# Altium footprint library 6_to_14_Pin.PcbLib: 74 footprints (part 5 of 5)
Each footprint in its own frame and in the unit in brackets; x right, y up, seen from the top. Pads: shape width x height; smd on the part's side, far side on the other; paste and mask are expansions set on the pad; w line width, h text height; cw(c..) or ccw(c..) is an arc to the next point about the centre after c.
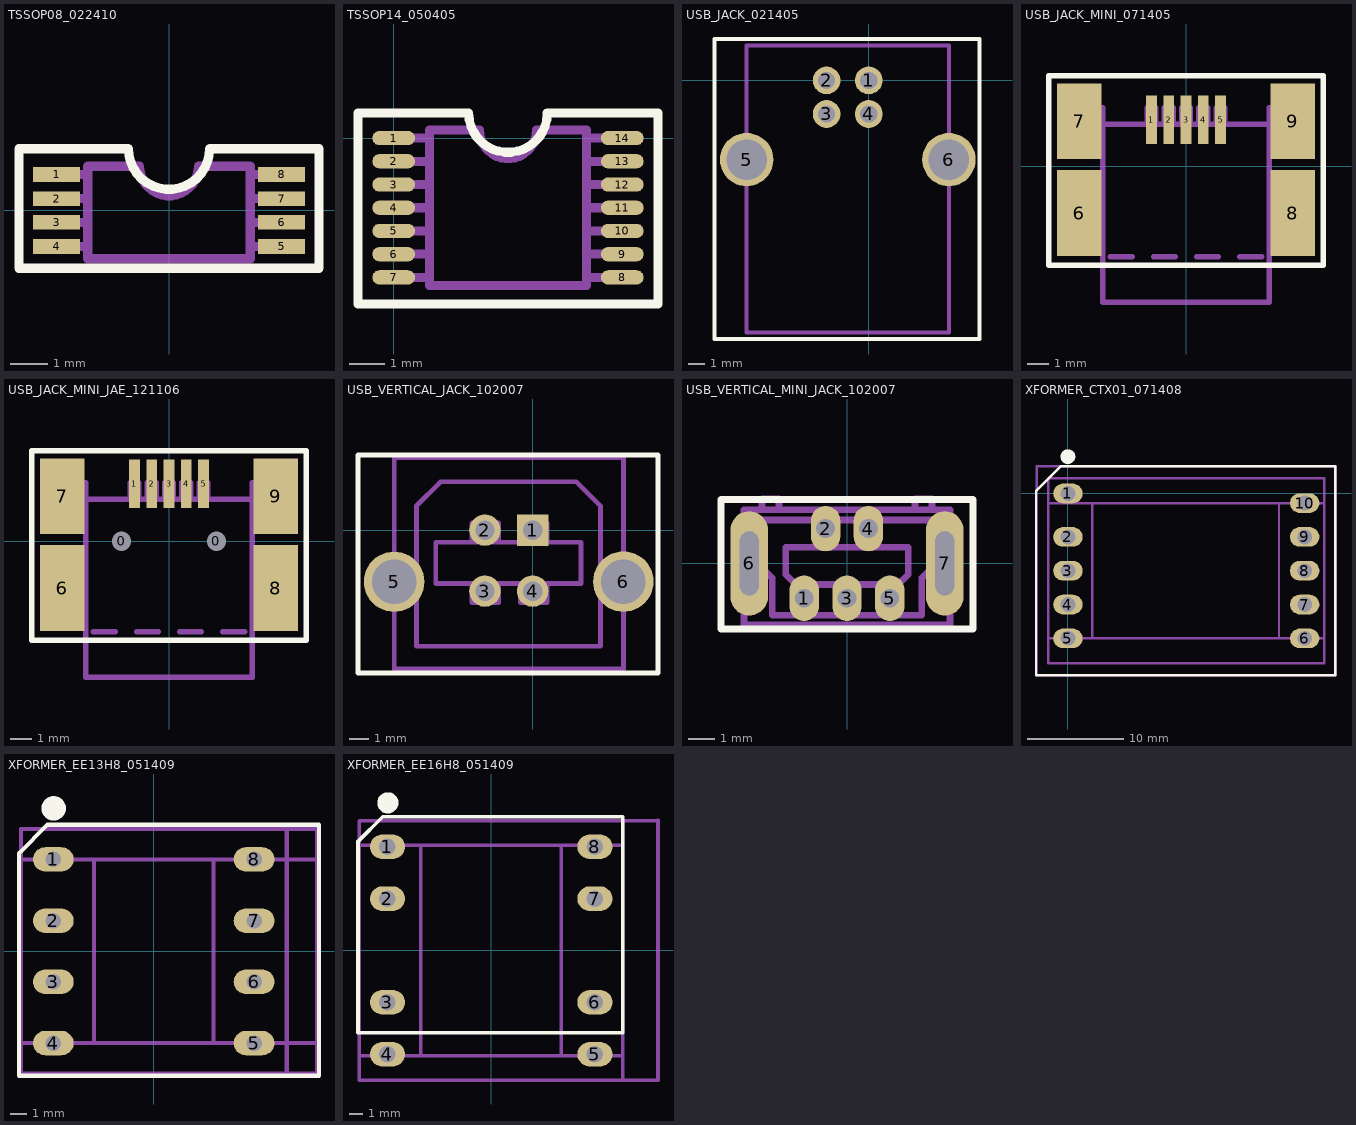
[diagram p4: the footprints below, top view; thin cyan lines are the x and y axes]

## TSSOP08_022410 [mil] "SMT"
height 50
pads (8):
  rect 50x15.5 smd mask+2: 1(-120,38.4) 2(-120,12.5) 3(-120,-12.5) 4(-120,-38.4) 5(120,-38.4) 6(120,-12.5) 7(120,12.5) 8(120,38.4)
Top Overlay:
  lines w10: -160,-61.61 -160,65.94 -43.31,65.94 ccw(c0,65.94) 43.31,65.94 160,65.94 160,-61.61 -160,-61.61
Assembly Outline:
  lines w10: -125.98,-38.39 -86.61,-38.39 ; -125.98,-12.79 -86.61,-12.79 ; -125.98,12.79 -86.61,12.79 ; -125.98,38.39 -86.61,38.39 ; -86.59,-51.61 86.61,-51.61 86.61,47.24 31.5,47.24 cw(c0,47.24) -31.5,47.24 -86.61,47.24 -86.61,-51.18 ; 86.61,-38.39 125.98,-38.39 ; 86.61,-12.79 125.98,-12.79 ; 86.61,12.79 125.98,12.79 ; 86.61,38.39 125.98,38.39
Assembly Designator:
  text ".Designator" at -65,20 h30
Assembly Comment:
  text ".Comment" at 55,-20 h10

## TSSOP14_050405 [mm] "SMT"
height 1.27
pads (14):
  oval 1.2x0.4 smd mask+0.038: 1(0,0) 2(0,-0.65) 3(0,-1.3) 4(0,-1.95) 5(0,-2.6) 6(0,-3.25) 7(0,-3.9) 8(6.4,-3.9) 9(6.4,-3.25) 10(6.4,-2.6) 11(6.4,-1.95) 12(6.4,-1.3) 13(6.4,-0.65) 14(6.4,0)
Top Overlay:
  lines w0.254: -1,-4.65 -1,0.7 2.1,0.7 ccw(c3.2,0.7) 4.3,0.7 7.4,0.7 7.4,-4.65 -1,-4.65
Assembly Outline:
  lines w0.254: 0,-3.9 1,-3.9 ; 0,-3.25 1,-3.25 ; 0,-2.6 1,-2.6 ; 0,-1.95 1,-1.95 ; 0,-1.3 1,-1.3 ; 0,-0.65 1,-0.65 ; 0,0 1,0 ; 3.2,-4.125 5.4,-4.125 ; 4.8,-4.125 1,-4.125 ; 5.4,-3.9 6.4,-3.9 ; 5.4,-3.25 6.4,-3.25 ; 5.4,-2.6 6.4,-2.6 ; 5.4,-1.95 6.4,-1.95 ; 5.4,-1.3 6.4,-1.3 ; 5.4,-0.65 6.4,-0.65 ; 5.4,0 6.4,0 ; 1,-4.125 1,-2.275 1,0.225 2.4,0.225 ccw(c3.2,0.225) 4,0.225 5.4,0.225 5.4,-4.125 ; 1,-4.125 5.4,-4.125
Assembly Designator:
  text ".Designator" at 1.956,-2.591 h1.02
Assembly Comment:
  text ".Comment" at -0.584,-5.969 h1.02

## USB_JACK_021405 [mil] "TH"
height 450
pads (6):
  round 65 hole 40: 1(0,0) 2(-98.43,0) 3(-98.43,-78.74) 4(0,-78.74)
  round 125 hole 95: 5(-285.83,-185.43) 6(187.79,-185.43)
Top Overlay:
  lines w10: -360.84,-605.43 -300.84,-605.43 44.16,-605.43 259.16,-605.43 259.16,44.57 259.16,96.77 -360.84,96.77 -360.84,44.57 -360.84,-605.43
Assembly Outline:
  lines w10: -285.84,-590.43 188.16,-590.43 188.16,27.57 188.16,81.77 -285.84,81.77 -285.84,27.57 -285.84,-590.43
Assembly Designator:
  text ".Designator" at -127,-229 h40
Assembly Comment:
  text ".Comment" at 80,18 h40

## USB_JACK_MINI_071405 [mm] "SM"
height 3.95
pads (9):
  rect 0.5x2.25 smd mask+0.051: 1(-1.6,2.163) 2(-0.8,2.163) 3(0,2.163) 4(0.8,2.163) 5(1.6,2.163)
  rect 2.05x4 smd mask+0.051: 6(-4.95,-2.163) 8(4.95,-2.163)
  rect 2.05x3.5 smd mask+0.051: 7(-4.95,2.087) 9(4.95,2.087)
Top Overlay:
  lines w0.254: -6.35,-4.572 0,-4.572 6.35,-4.572 6.35,0 6.35,4.191 0,4.191 -6.35,4.191 -6.35,0 -6.35,-4.572
Assembly Outline:
  lines w0.254: -4.95,-2.287 -4.95,-3.287 ; -4.45,-1.287 -4.95,-1.287 ; -3.85,-3.287 -4.95,-3.287 ; -3.85,-1.287 -4.95,-1.287 ; -3.85,1.213 -4.95,1.213 -4.95,2.713 -3.85,2.713 ; -3.5,-4.187 -2.5,-4.187 ; -1.6,1.963 -1.8,1.963 -1.8,2.713 -1.6,2.713 -1.4,2.713 -1.4,1.963 ; -1.5,-4.187 -0.5,-4.187 ; -0.8,1.963 -1,1.963 -1,2.713 -0.8,2.713 -0.6,2.713 -0.6,1.963 ; 0,-6.287 -3.85,-6.287 ; 0,1.963 -0.2,1.963 -0.2,2.713 0,2.713 0.2,2.713 0.2,1.963 ; 0.5,-4.187 1.5,-4.187 ; 0.8,1.963 0.6,1.963 0.6,2.713 0.8,2.713 1,2.713 1,1.963 ; 1.6,1.963 1.4,1.963 1.4,2.713 1.6,2.713 1.8,2.713 1.8,1.963 ; 2.5,-4.187 3.5,-4.187 ; 3.85,-4.287 3.85,-6.287 ; 3.85,-1.287 4.95,-1.287 ; 3.85,1.213 4.95,1.213 ; 4.45,-1.287 4.95,-1.287 ; 4.95,-2.287 4.95,-3.287 ; 4.95,1.963 4.95,1.213 ; -4.95,-3.287 -4.95,-1.287 ; -3.85,-6.287 3.85,-6.287 ; -3.85,-6.287 -3.85,2.713 ; -3.85,2.713 -3.85,1.963 1.975,1.963 3.85,1.963 3.85,2.713 ; 3.85,-6.287 3.85,2.713 ; 3.85,-6.287 3.85,-3.287 4.95,-3.287 ; 3.85,2.713 4.95,2.713 4.95,1.213 ; 4.95,-3.287 4.95,-1.287
  text "EDGE" at -1.75,-3.812 h1.02
Assembly Designator:
  text ".Designator" at -1,-1.7 h1.02
Assembly Comment:
  text ".Comment" at -3.575,3.65 h1.02

## USB_JACK_MINI_JAE_121106 [mm] "SM"
height 3.95
pads (11):
  round 0.8 hole 0.9: 0(-2.2,0) 0(2.2,0)
  rect 0.5x2.25 smd mask+0.051: 1(-1.6,2.671) 2(-0.8,2.671) 3(0,2.671) 4(0.8,2.671) 5(1.6,2.671)
  rect 2.05x4 smd mask+0.051: 6(-4.95,-2.163) 8(4.95,-2.163)
  rect 2.05x3.5 smd mask+0.051: 7(-4.95,2.087) 9(4.95,2.087)
Top Overlay:
  lines w0.254: -6.35,-4.572 0,-4.572 6.35,-4.572 6.35,0 6.35,4.191 0,4.191 -6.35,4.191 -6.35,0 -6.35,-4.572
Assembly Outline:
  lines w0.254: -4.95,-2.287 -4.95,-3.287 ; -4.45,-1.287 -4.95,-1.287 ; -3.85,-3.287 -4.95,-3.287 ; -3.85,-1.287 -4.95,-1.287 ; -3.85,1.213 -4.95,1.213 -4.95,2.713 -3.85,2.713 ; -3.5,-4.187 -2.5,-4.187 ; -1.6,1.963 -1.8,1.963 -1.8,2.713 -1.6,2.713 -1.4,2.713 -1.4,1.963 ; -1.5,-4.187 -0.5,-4.187 ; -0.8,1.963 -1,1.963 -1,2.713 -0.8,2.713 -0.6,2.713 -0.6,1.963 ; 0,-6.287 -3.85,-6.287 ; 0,1.963 -0.2,1.963 -0.2,2.713 0,2.713 0.2,2.713 0.2,1.963 ; 0.5,-4.187 1.5,-4.187 ; 0.8,1.963 0.6,1.963 0.6,2.713 0.8,2.713 1,2.713 1,1.963 ; 1.6,1.963 1.4,1.963 1.4,2.713 1.6,2.713 1.8,2.713 1.8,1.963 ; 2.5,-4.187 3.5,-4.187 ; 3.85,-4.287 3.85,-6.287 ; 3.85,-1.287 4.95,-1.287 ; 3.85,1.213 4.95,1.213 ; 4.45,-1.287 4.95,-1.287 ; 4.95,-2.287 4.95,-3.287 ; 4.95,1.963 4.95,1.213 ; -4.95,-3.287 -4.95,-1.287 ; -3.85,-6.287 3.85,-6.287 ; -3.85,-6.287 -3.85,2.713 ; -3.85,2.713 -3.85,1.963 1.975,1.963 3.85,1.963 3.85,2.713 ; 3.85,-6.287 3.85,2.713 ; 3.85,-6.287 3.85,-3.287 4.95,-3.287 ; 3.85,2.713 4.95,2.713 4.95,1.213 ; 4.95,-3.287 4.95,-1.287
  text "EDGE" at -1.75,-3.812 h1.02
Assembly Designator:
  text ".Designator" at -1,-1.7 h1.02
Assembly Comment:
  text ".Comment" at -3.575,3.65 h1.02

## USB_VERTICAL_JACK_102007 [mil] "TH"
height 615
pads (6):
  rect 65x65 hole 40: 1(0,0)
  round 65 hole 40: 2(-98.43,0) 3(-98.43,-125.98) 4(0,-125.98)
  round 125 hole 92: 5(-286.22,-106.69) 6(187.8,-106.3)
Top Overlay:
  lines w10: -360.84,-295 -360.84,155 259.16,155 259.16,-295 -360.84,-295
Assembly Outline:
  lines w10: -125,-110 -125,-150 -70,-150 -70,-110 ; -125,-25 -125,15 -70,15 -70,-25 ; -25,-110 -25,-150 30,-150 30,-110 ; -25,-25 -25,15 30,15 30,-25 ; -285.84,-287.01 -285.84,150 188.16,150 188.16,-287.01 -285.84,-287.01 ; -240,-240 -240,50 -190,100 90,100 140,50 140,-240 -240,-240 ; -200,-110 100,-110 100,-25 -200,-25 -200,-110
Assembly Designator:
  text ".Designator" at -155,-85 h40
Assembly Comment:
  text ".Comment" at -270,-340 h40

## USB_VERTICAL_MINI_JACK_102007 [mm] "TH"
height 7.747
pads (7):
  oval 1.1x1.7 hole 0.7: 1(-1.6,-1.3) 2(-0.8,1.3) 3(0,-1.3) 4(0.8,1.3) 5(1.6,-1.3)
  oval 1.4x3.9 hole 0.7 slot 2.4 at 90 deg: 6(-3.65,0) 7(3.65,0)
Top Overlay:
  lines w0.254: -4.699,-2.443 4.699,-2.443 4.699,2.383 -4.699,2.383 -4.699,-2.443
Assembly Outline:
  lines w0.254: -3.175,2.002 -3.175,2.4 -2.54,2.4 -2.54,2.002 ; 2.54,2.129 2.54,2.4 3.175,2.4 3.175,2.002 ; -3.85,-2.3 -3.85,2.002 3.85,2.002 3.85,-2.3 -3.85,-2.3 ; -3.429,0.097 -2.794,-0.538 -2.794,-1.935 2.794,-1.935 2.794,-0.538 3.429,0.097 3.429,1.621 -3.429,1.621 -3.429,0.097 ; -2.286,-0.411 -1.905,-0.792 1.905,-0.792 2.286,-0.411 2.286,0.605 -2.286,0.605 -2.286,-0.411
Assembly Designator:
  text ".Designator" at -1.143,2.383 h1.02
Assembly Comment:
  text ".Comment" at -4.572,-3.713 h1.02

## XFORMER_CTX01_071408 [mil] "TH"
height 60
pads (10):
  oval 120x80 hole 60: 1(0,0) 2(0,-177.17) 3(0,-314.96) 4(0,-452.76) 5(0,-590.55) 6(964.57,-590.55) 7(964.57,-452.76) 8(964.57,-314.96) 9(964.57,-177.17) 10(964.57,-39.37)
Top Overlay:
  circle w30: c0,150 r15
  lines w10: -130,-740 1090,-740 1090,110 -30,110 -130,10 -130,-740
Assembly Outline:
  lines w10: -80,-590 100,-590 ; -80,-40 100,-40 ; -80,60 -80,-692.2 1044.57,-692.2 1044.57,62.28 -77.72,62.28 ; 1044.57,-590 860,-590 ; 1044.57,-40 860,-40 ; 100,-590 860,-590 ; 100,-590 100,-40 ; 100,-40 860,-40 ; 860,-590 860,-40 ; -127.72,-739.92 -127.72,110 1092.28,110 1092.28,-739.92 -127.72,-739.92
Assembly Designator:
  text ".Designator" at 400,-330 h40
Assembly Comment:
  text ".Comment" at 150,-520 h40

## XFORMER_EE13H8_051409 [mil] "TH"
height 60
pads (8):
  oval 100x60 hole 38: 1(-246.06,225) 2(-246.06,75) 3(-246.06,-75) 4(-246.06,-225) 5(246.06,-225) 6(246.06,-75) 7(246.06,75) 8(246.06,225)
Top Overlay:
  circle w30: c-245,350 r15
  lines w10: -330,-305 405,-305 405,310 -260,310 -330,240 -330,-305
Assembly Outline:
  lines w10: -326.06,-225 -146.06,-225 ; -326.06,224.37 -146.06,224.37 ; 146.06,224.37 146.13,-225 ; 326.06,-300 326.06,300 ; 400,-225 -146.06,-225 ; 400,224.37 -146.06,224.37 ; -146.06,-225 -146.06,224.37 ; -325,-300 -325,300 400,300 400,-300 -325,-300
Assembly Designator:
  text ".Designator" at -45,-20 h40
Assembly Comment:
  text ".Comment" at -125,-180 h40

## XFORMER_EE16H8_051409 [mil] "TH"
height 65
pads (8):
  oval 100x70 hole 47: 1(-295.28,295.28) 2(-295.28,147.64) 3(-295.28,-147.64) 4(-295.28,-295.28) 5(295.28,-295.28) 6(295.28,-147.64) 7(295.28,147.64) 8(295.28,295.28)
Top Overlay:
  circle w30: c-294.21,420.28 r15
  lines w10: -379.21,-234.72 375,-234.72 375,380.28 -309.21,380.28 -379.21,310.28 -379.21,-234.72
Assembly Outline:
  lines w10: -375,-300 375,-300 ; -375,300 375,300 ; -200,-300 -200,300 ; 200,-300 200,300 ; 375,-370 375,370 ; 475,370 -375,370 -375,-370 475,-370 475,370.28
Assembly Designator:
  text ".Designator" at -94.21,50.28 h40
Assembly Comment:
  text ".Comment" at -174.21,-109.72 h40